# Altium integrated library Relay.IntLib: 3 symbols
Pins are listed as number, name and electrical type; pins without a type are passive.

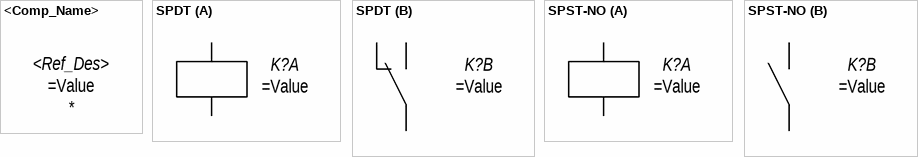
[diagram p0: symbols <Comp_Name> to SPST-NO]

## <Comp_Name>
designator <Ref_Des>
<element_assignmen>; Manufacturer: *; HelpURL: *; Value: =Value

## SPDT
designator K?  (value not drawn)
Relay Single-Pole Double-Throw; Manufacturer: *; HelpURL: *; Value: =Value
footprint Finder_40.31 (Relay series 40.31)
footprint Finder_40.51 (Relay series 40.51)
part A pins: A1, A2
part B pins: 11, 12, 14

## SPST-NO
designator K?  (value not drawn)
Relay Single-Pole Single-Throw, Normally-Open; Manufacturer: *; HelpURL: *; Value: =Value
part A pins: A1, A2
part B pins: 11, 14